# EAGLE library part EC16_SW (library custom)
Aliexpress rotary Encoder EC16 with switch
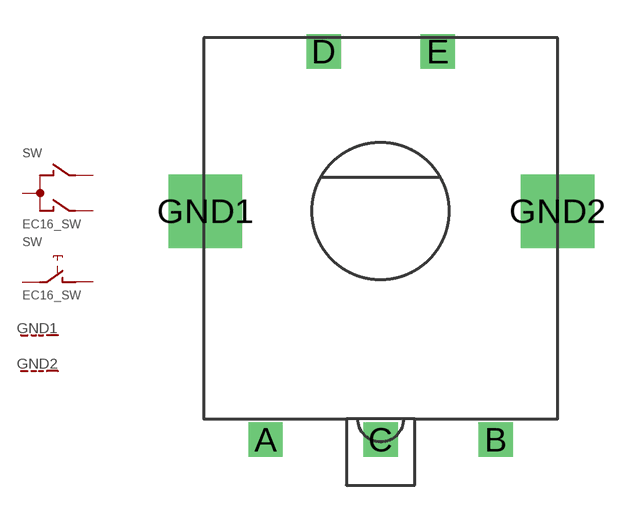
[diagram p0: symbol with the pads of EC16_SW; footprint EC16_SW]

Designator prefix SW; gates G$1=ENCODER G$2=TASTER G$3=CHASIS G$4=CHASIS

## EC16_SW  [EC16_SW]
A  G$1:A  pas
B  G$1:B  pas
C  G$1:C  pas
D  G$2:1  pas
E  G$2:2  pas
GND1  G$3:G  pas
GND2  G$4:G  pas

## Footprint EC16_SW (pad centres in mm)
Alixpress rotary encoder <https://es.aliexpress.com/item/EC16-type-encoder-with-push-switch-24-potential-24-pulse-sawtooth-axis-15MM-digital-rotary-potentiometer/32750152117.html?spm=2114.13010608.0.0.9DKwat> EC16 with push-on switch
drill 1 square: A -5.04,-10; B 5.04,-10; C 0,-10; D -2.5,7; E 2.5,7
drill 2.2 square: GND1 -7.675,0; GND2 7.75,0